# Altium schematic symbol library OPA2388.SchLib: 1 symbol
Pins are listed as number, name and electrical type; pins without a type are passive.

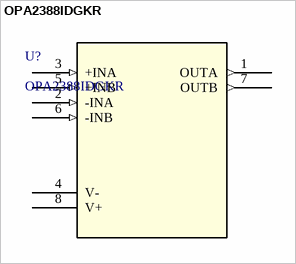
[diagram p0: symbol OPA2388IDGKR]

## OPA2388IDGKR
designator U?
Dual, 10-MHz, CMOS, zero-drift, zero-crossover, true RRIO precision operational amplifier 8-VSSOP -40 to 125; Manufacturer_Name: Texas Instruments; Copyright: Copyright (C) 2026 Ultra Librarian. All rights reserved.; Manufacturer_Part_Number: OPA2388IDGKR; RefDes: RefDes; Type: Type
footprint VSSOP8_DGK_TEX
pins: 1 OUTA (out), 2 -INA (in), 3 +INA (in), 4 V- (power), 5 +INB (in), 6 -INB (in), 7 OUTB (out), 8 V+ (power)